# EAGLE library part MOLEX_MINIFIT-6 (library molex_mini-fit)
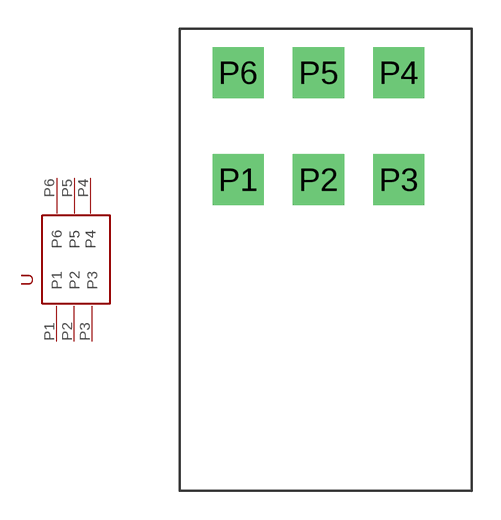
[diagram p7: symbol with the pads of MOLEX_MINIFIT-6; footprint MOLEX_MINIFIT-6]

Designator prefix -

## MOLEX_MINIFIT-6  [MOLEX_MINIFIT-6]
P1  P1
P2  P2
P3  P3
P4  P4
P5  P5
P6  P6

## Footprint MOLEX_MINIFIT-6 (pad centres in mm)
drill 1.778 pad 2.54 square: P1 -4.191,-2.794; P2 0,-2.794; P3 4.191,-2.794; P4 4.191,2.794; P5 0,2.794; P6 -4.191,2.794